# EAGLE library part MAGJACK_ARIA (library BaseApp)
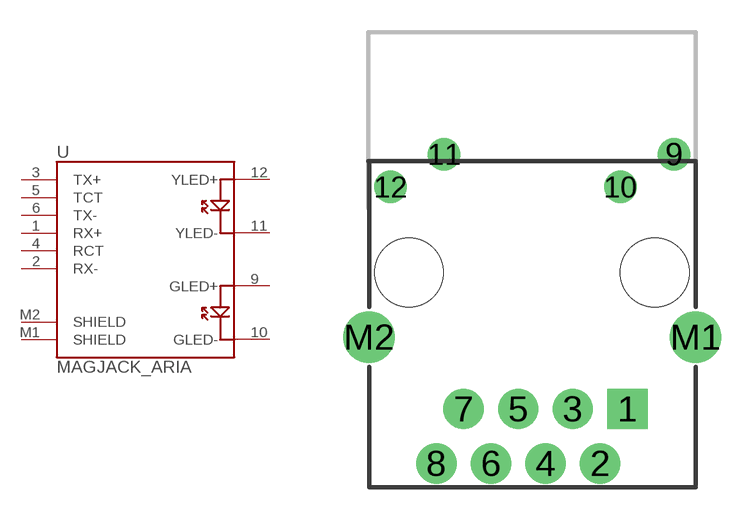
[diagram p50: symbol with the pads of MAGJACK_ARIA; footprint MAGJACK_ARIA]

Designator prefix -

## MAGJACK_ARIA  [MAGJACK_ARIA]
1  RX+
2  RX-
3  TX+
4  RCT
5  TCT
6  TX-
9  GLED+
10  GLED-
11  YLED-
12  YLED+
M1  SHIELD
M2  SHIELD

## Footprint MAGJACK_ARIA (pad centres in mm)
drill 1 pad 1.88 square: 1 4.445,-4.745
drill 1 pad 1.88: 2 3.175,-7.285; 3 1.905,-4.745; 4 0.635,-7.285; 5 -0.635,-4.745; 6 -1.905,-7.285; 7 -3.175,-4.745; 8 -4.445,-7.285
drill 1 pad 1.27: 9 6.62,7.12; 10 4.12,5.6; 11 -4.08,7.12; 12 -6.58,5.6
drill 1.6 pad 2.184: M1 7.62,-1.4; M2 -7.58,-1.4
hole 3.2 at 5.715,1.605
hole 3.2 at -5.715,1.605